# Altium schematic symbol library DDR_32Mx16_Mobile.Schlib: 1 symbol
Pins are listed as number, name and electrical type; pins without a type are passive.

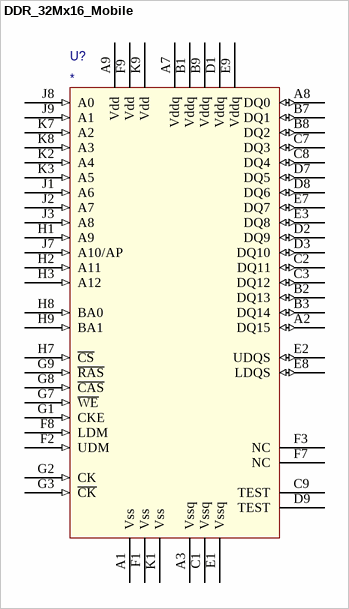
[diagram p0: symbol DDR_32Mx16_Mobile]

## DDR_32Mx16_Mobile
designator U?
signal-integrity model Model Name (Model Description)
pins: A1 Vss (power), A2 DQ15 (io), A3 Vssq (power), A7 Vddq (power), A8 DQ0 (io), A9 Vdd (power), B1 Vddq (power), B2 DQ13 (io), B3 DQ14 (io), B7 DQ1 (io), B8 DQ2 (io), B9 Vddq (power), C1 Vssq (power), C2 DQ11 (io), C3 DQ12 (io), C7 DQ3 (io), C8 DQ4 (io), C9 TEST, D1 Vddq (power), D2 DQ9 (io), D3 DQ10 (io), D7 DQ5 (io), D8 DQ6 (io), D9 TEST, E1 Vssq (power), E2 UDQS (io), E3 DQ8 (io), E7 DQ7 (io), E8 LDQS (io), E9 Vddq (power), F1 Vss (power), F2 UDM (in), F3 NC, F7 NC, F8 LDM (in), F9 Vdd (power), G1 CKE (in), G2 CK (in), G3 ~{CK} (in), G7 ~{WE} (in), G8 ~{CAS} (in), G9 ~{RAS} (in), H1 A9 (in), H2 A11 (in), H3 A12 (in), H7 ~{CS} (in), H8 BA0 (in), H9 BA1 (in), J1 A6 (in), J2 A7 (in), J3 A8 (in), J7 A10/AP (in), J8 A0 (in), J9 A1 (in), K1 Vss (power), K2 A4 (in), K3 A5 (in), K7 A2 (in), K8 A3 (in), K9 Vdd (power)